# EAGLE library part LM1972 (library Fugu_LSI)
2ch 78db Audio Attenuator
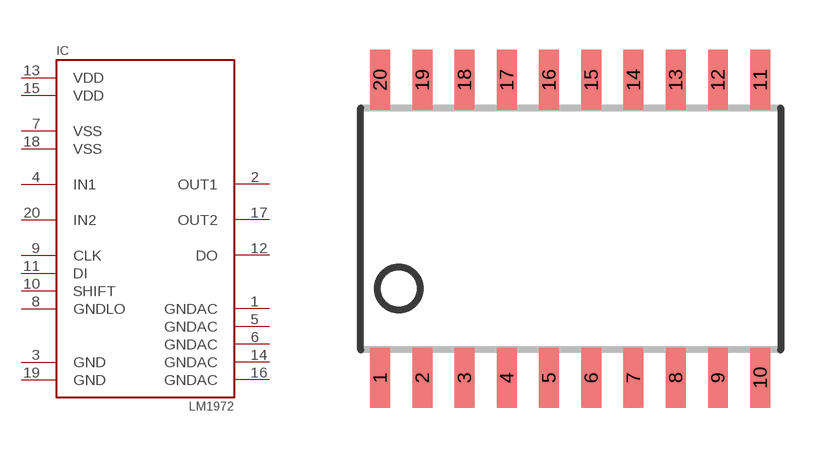
[diagram p26: symbol with the pads of SOIC20L; footprint SOIC20L]

Designator prefix IC

## LM1972  [SOIC20L]
1  GNDAC
2  OUT1
3  GND
4  IN1
5  GNDAC
6  GNDAC
7  VSS
8  GNDLO
9  CLK
10  SHIFT
11  DI
12  DO
13  VDD
14  GNDAC
15  VDD
16  GNDAC
17  OUT2
18  VSS
19  GND
20  IN2

## Footprint SOIC20L (pad centres in mm)
SMALL OUTLINE PACKAGE 12.8 x 10.3 Source: http://www.lsicsi.com/pdfs/Drawings/SOIC%20Outline%20Dwgs.pdf
smd 0.6 x 1.8: 1 -5.715,-4.475; 2 -4.445,-4.475; 3 -3.175,-4.475; 4 -1.905,-4.475; 5 -0.635,-4.475; 6 0.635,-4.475; 7 1.905,-4.475; 8 3.175,-4.475; 9 4.445,-4.475; 10 5.715,-4.475; 11 5.715,4.475; 12 4.445,4.475; 13 3.175,4.475; 14 1.905,4.475; 15 0.635,4.475; 16 -0.635,4.475; 17 -1.905,4.475; 18 -3.175,4.475; 19 -4.445,4.475; 20 -5.715,4.475